# Altium footprint library FP-Mechanical.PcbLib: 31 footprints (part 1 of 2)
Each footprint in its own frame and in the unit in brackets; x right, y up, seen from the top. Pads: shape width x height; smd on the part's side, far side on the other; paste and mask are expansions set on the pad; w line width, h text height; cw(c..) or ccw(c..) is an arc to the next point about the centre after c.
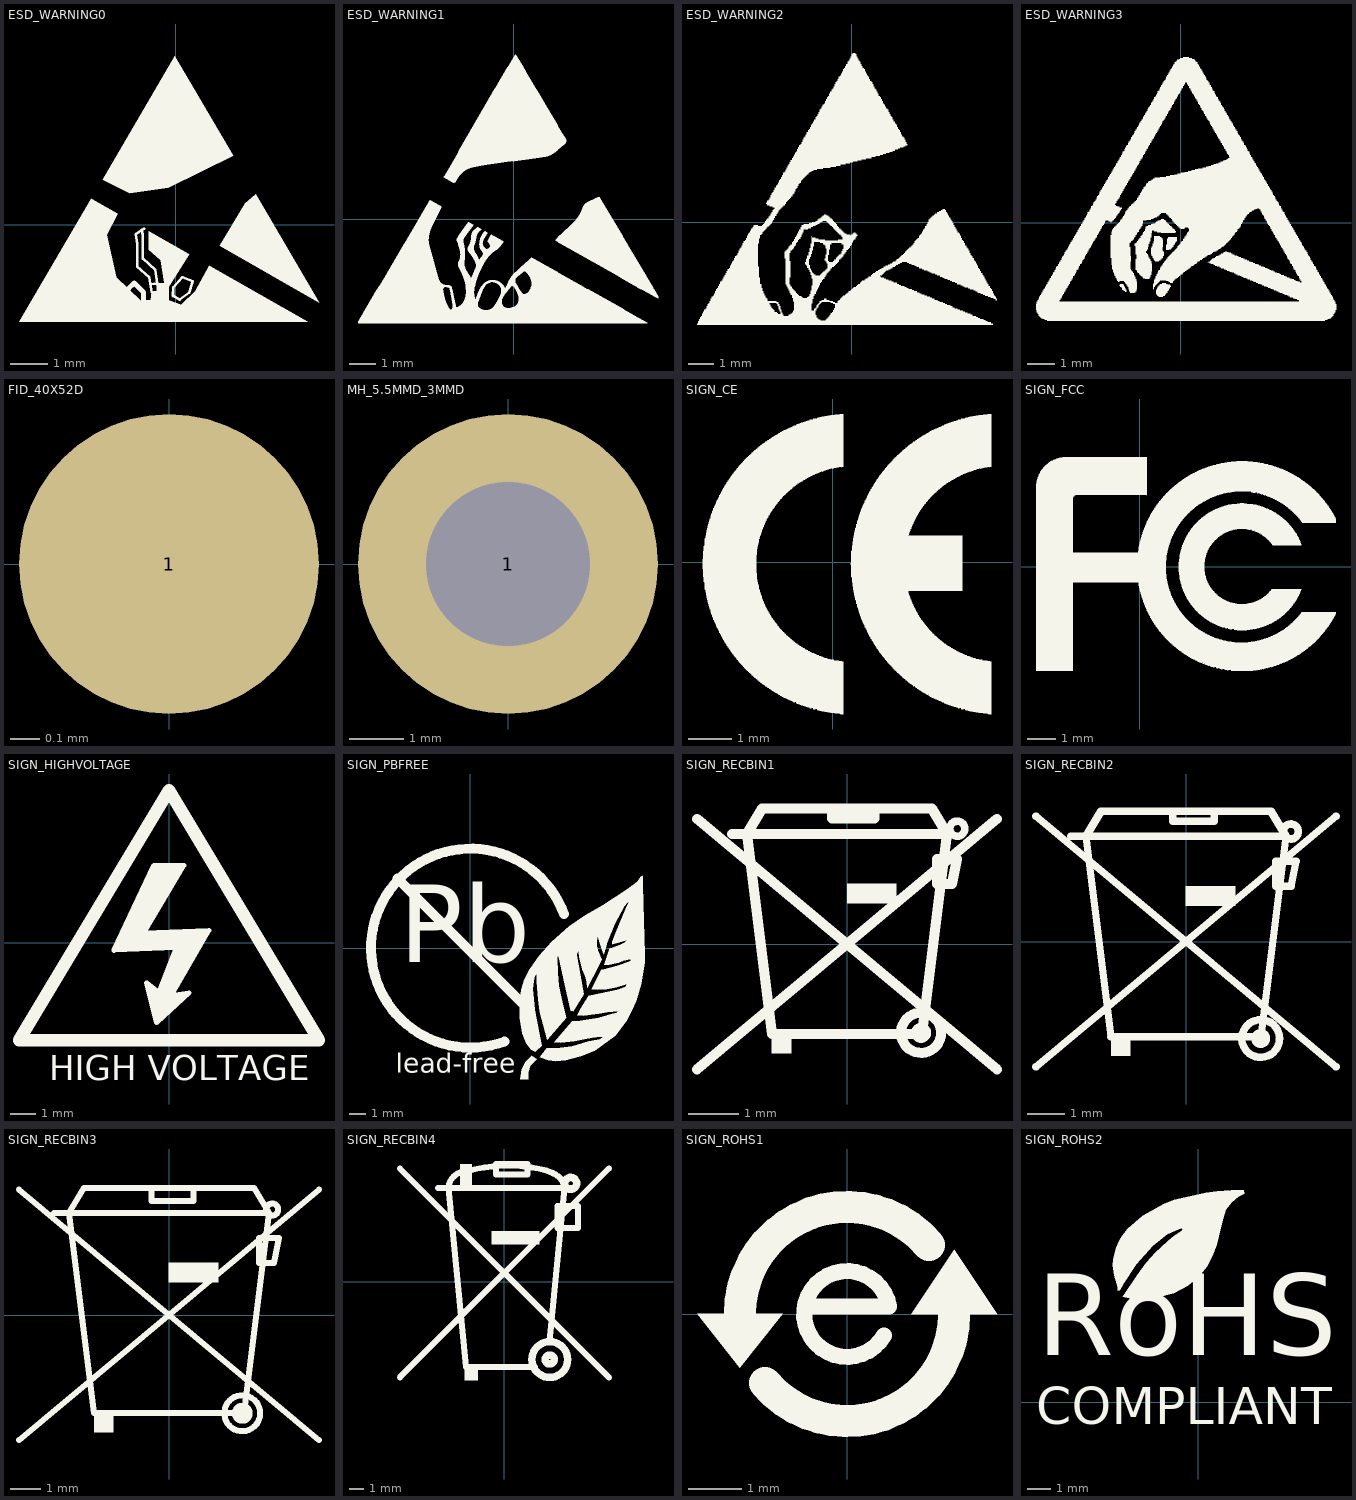
[diagram p0: the footprints below, top view; thin cyan lines are the x and y axes]

## ESD_WARNING0 [mil] "Electrostatic Discharge Warning, 8x7mm"
Top Overlay:
  region: -88.27,27.27 -60.76,11.73 -72.03,-10.25 -62.3,-54.84 -36.68,-79.56 -25.9,-78.57 -25.13,-70.73 -19.67,-70.24 -19.25,-61.43 -11.97,-60.72 -15.61,-37.41 -28.21,-26.21 -28.21,-6.82 14.28,-30.97 -7.07,-64.85 -7.07,-78.85 5.74,-83.96 20.58,-69.75 35.21,-42.87 138.46,-101.67 -163.94,-101.67 -88.2,27.34
  region: 45.99,-22.22 150.08,-81.51 83.65,32.1 72.8,22.37 46.2,-21.73
  region: -0.98,176.51 -76.23,47.36 -47.81,33.15 -7.7,38.75 60.13,72.21 -0.91,176.44
  lines w2.8: -35.14,-5.35 -34.3,-11.79 -34.3,-35.52 -21.35,-47.07 -19.25,-61.43 ; -33.18,-4.02 -41.65,-9.9 -40.32,-20.05 -40.32,-43.85 -27.44,-55.33 -25.13,-70.73 -17.99,-70.1 -19.25,-61.43 ; -26.46,-62.12 -19.25,-61.43 ; -2.66,-74.51 -2.38,-65.41 7.14,-54.84 17.78,-59.11 14.21,-70.94 4.41,-78.29 -2.66,-74.51
  lines w5.12: -49.49,-67.2 -43.32,-61.02 -33.46,-70.88 -33.46,-78.74

## ESD_WARNING1 [mil] "Electrostatic Discharge Warning, 10.3X11.6mm"
Top Overlay:
  drawing of 3 lines, arcs and shapes, not listed

## ESD_WARNING2 [mil] "Electrostatic Discharge Warning, 10.3X11.6mm"
Top Overlay:
  drawing of 1 lines, arcs and shapes, not listed

## ESD_WARNING3 [mil] "Electrostatic Discharge Warning, 9.6X11.1mm"
Top Overlay:
  drawing of 6 lines, arcs and shapes, not listed

## FID_40X52D [mil]
pads (1):
  round 40 smd paste-40 mask+5.91: 1(0,0)

## MH_5.5MMD_3MMD [mm]
pads (1):
  round 5.5 / inner round 4 / far side round 5.5 hole 3: 1(0,0)

## SIGN_CE [mil] "CE Compliant, 7x7mm"
Top Overlay:
  drawing of 2 lines, arcs and shapes, not listed

## SIGN_FCC [mil] "FCC Compliant, 7x7mm"
Top Overlay:
  drawing of 2 lines, arcs and shapes, not listed

## SIGN_HIGHVOLTAGE [mil] "SIGN, HIGH VOLTAGE HAZARD, 12X12.5mm"
Top Overlay:
  region: 23.62,122.05 -23.62,122.05 -86.61,-11.81 11.81,-7.87 -15.75,-78.74 -35.43,-62.99 -19.68,-125.98 31.5,-78.74 3.94,-82.68 62.99,19.68 -39.37,15.75
  lines w7.87: -86.61,-11.81 -23.62,122.05 23.62,122.05 -39.37,15.75 62.99,19.68 3.94,-82.68 31.5,-78.74 -19.68,-125.98 -35.43,-62.99 -15.75,-78.74 11.81,-7.87 -86.61,-11.81
  lines w19.68: -236.22,-153.54 236.22,-153.54 0,240.16 -236.22,-153.54
  text "HIGH VOLTAGE" at -188.98,-216.54 h39.37

## SIGN_PBFREE [mil] "SIGN, Lead-Free, 12X12mm"
Top Overlay:
  drawing of 4 lines, arcs and shapes, not listed
  text "Pb" at -169.29,-94.49 h314.96
  text "lead-free" at -177.17,-311.02 h78.74

## SIGN_RECBIN1 [mil] "SIGN, Recycle-bin, 6x5mm"
Top Overlay:
  circle w5.91: c86.61,90.55 r5.91
  circle w7.87: c58.15,-69.71 r15.75
  circle w7.87: c58.15,-69.71 r3.94
  region: -58.88,-70.77 -43.83,-70.77 -43.83,-85.85 -58.88,-85.85
  region: 0,47.23 38.6,47.23 38.6,32.15 0,32.15
  lines w7.87: -117.76,-98.33 117.76,98.33 ; -117.76,98.33 117.76,-98.33 ; -90.28,86.56 78.51,86.56 ; -11.81,103.04 -11.81,98.43 21.44,98.43 21.44,104.55 ; 78.51,86.56 66.73,106.22 -66.73,106.22 -78.51,86.56 -58.88,-70.77 58.88,-70.77 78.51,86.56 ; 70.66,47.23 82.43,47.23 86.36,66.89 70.66,66.89 70.66,47.23

## SIGN_RECBIN2 [mil] "SIGN, Recycle-bin, 8x7mm"
Top Overlay:
  circle w7.87: c109.33,115.33 r7.87
  circle w7.87: c77.83,-101.2 r19.68
  circle w7.87: c77.83,-101.2 r5.91
  region: -78.74,-99.27 -58.69,-99.27 -58.69,-119.36 -78.74,-119.36
  region: -0.29,57.94 51.14,57.94 51.14,37.85 -0.29,37.85
  lines w7.87: -157.19,-130.77 156.61,131.25 ; -157.19,131.25 156.61,-130.77 ; -120.58,110.35 104.31,110.35 ; -58.69,-99.27 -78.74,-99.27 ; -14,134.53 -14,125.98 29.31,125.98 29.31,136.04 ; -78.74,-99.27 78.16,-99.27 104.31,110.35 ; -78.74,-99.27 -104.89,110.35 -89.2,136.55 88.62,136.55 104.31,110.35 ; 93.85,57.94 109.54,57.94 114.77,84.14 93.85,84.14 93.85,57.94

## SIGN_RECBIN3 [mil] "SIGN, Recycle-bin, 10x8mm"
Top Overlay:
  circle w7.87: c135.13,138.95 r7.87
  circle w7.87: c95.76,-128.76 r23.62
  circle w11.81: c95.76,-128.76 r7.87
  region: -0.5,68.77 64.12,68.77 64.12,43.53 -0.5,43.53
  region: -99.07,-128.76 -73.88,-128.76 -73.88,-154 -99.07,-154
  lines w7.87: -197.64,-164.2 196.64,165.03 ; -197.64,165.03 196.64,-164.2 ; -151.64,134.62 130.93,134.62 ; -73.88,-128.76 -99.07,-128.76 ; -23.62,166.03 -23.62,150.28 31.5,150.28 31.5,167.54 ; -99.07,-128.76 -131.93,134.62 -112.21,167.54 111.22,167.54 130.93,134.62 ; -99.07,-128.76 98.07,-128.76 130.93,134.62 ; 117.79,68.77 117.79,101.69 144.07,101.69 137.5,68.77 117.79,68.77

## SIGN_RECBIN4 [mil] "SIGN, Recycle-bin, 14X14mm"
Top Overlay:
  circle w19.68: c174.86,259.84 r15.75
  circle w19.68: c119.74,-204.72 r11.81
  circle w19.68: c119.74,-204.72 r47.24
  rectangle: -33.8,98.43 92.18,133.86
  rectangle: -104.67,-259.84 -69.24,-224.41
  rectangle: -116.48,248.03 -84.98,311.02
  lines w15.75: -275.59,-251.97 275.59,299.21 ; -275.59,299.21 275.59,-251.97 ; -175.54,248.03 182.73,248.03 ; -147.98,244.09 cw(c-100.73,244.09) -116.89,288.49 ; -147.98,248.03 -100.73,-224.41 80.37,-224.41 ; -92.39,293.67 cw(c9.5,-86.61) 111.4,293.67 127.61,287.4 ; 118.57,-157.36 159.11,248.03 ; 128.02,286.52 cw(c111.87,242.13) 159.11,242.13 ; -21.99,283.46 -21.99,311.02 60.68,311.02 60.68,283.46 -21.99,283.46 ; 139.42,141.73 139.42,200.79 194.54,200.79 194.54,141.73 139.42,141.73

## SIGN_ROHS1 [mil] "SIGN, ROHS Compliant, 5.5x4.8mm"
Top Overlay:
  region: 110.24,0 78.74,47.24 47.24,0
  region: -110.24,0 -78.74,-39.37 -47.24,0
  lines w11.81: -26.03,5.47 31.02,5.47 ccw(c0,0) 27.28,-15.75
  lines w23.62: -78.74,0 cw(c0,0) 60.32,50.61 ; -60.32,-50.61 ccw(c0,0) 78.74,0

## SIGN_ROHS2 [mil] "SIGN, ROHS Compliant, 14X12mm"
Top Overlay:
  region: -128.35,177.95 -109.45,174.02 -92.91,174.02 -67.72,177.17 -41.73,184.25 -18.11,196.85 0.79,212.6 14.17,229.13 23.62,246.46 30.71,266.14 37.8,295.28 41.73,311.02 46.46,325.2 55.91,337.8 66.93,347.24 77.17,352.76 76.38,358.27 55.12,358.27 31.5,356.69 12.6,354.33 -40.94,342.52 -58.27,335.43 -94.49,315.75 -119.69,293.7 -129.13,281.1 -133.86,273.23 -139.37,261.42 -144.09,241.73 -144.88,231.5 -142.52,214.96 -136.22,194.49 -136.22,188.19 -133.07,188.98 -126.77,200.79 -105.51,233.07 -77.17,264.57 -52.76,284.25 -33.07,292.91 -28.35,294.49 -26.77,292.13 -28.35,289.76 -40.94,281.89 -51.18,273.23 -73.23,252.76 -88.19,236.22 -103.15,214.96
  text "RoHS" at -273.91,33.42 h236.22
  text "COMPLIANT" at -274.8,-57.48 h106.3